# Altium footprint library react4.PcbLib: 30 footprints (part 1 of 2)
Each footprint in its own frame and in the unit in brackets; x right, y up, seen from the top. Pads: shape width x height; smd on the part's side, far side on the other; paste and mask are expansions set on the pad; w line width, h text height; cw(c..) or ccw(c..) is an arc to the next point about the centre after c.
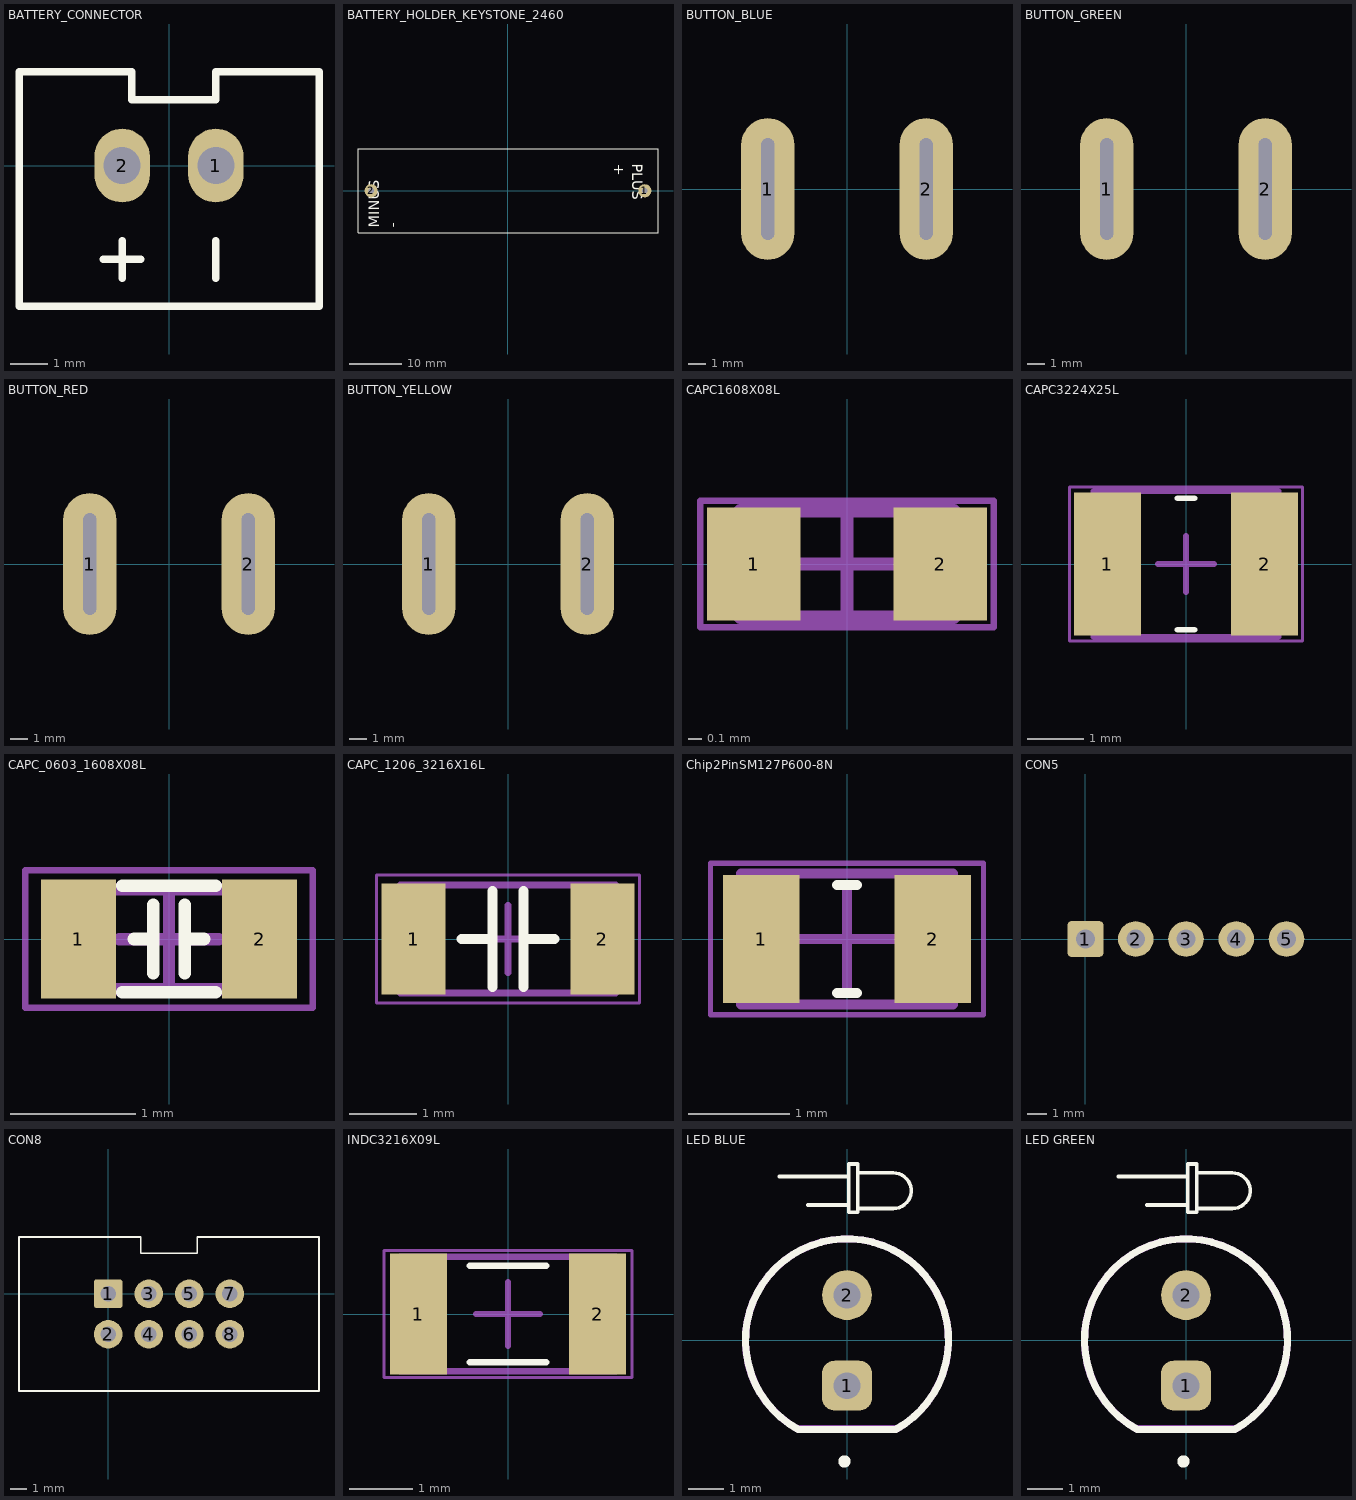
[diagram p0: the footprints below, top view; thin cyan lines are the x and y axes]

## BATTERY_CONNECTOR [mm]
pads (2):
  oval 1.5x2 hole 1: 1(1.27,0) 2(-1.27,0)
Top Overlay:
  lines w0.203: -1.778,-2.54 -0.762,-2.54 ; -1.27,-3.048 -1.27,-2.032 ; 1.27,-3.048 1.27,-2.032 ; -4.064,-3.81 -4.064,2.54 -1.016,2.54 -1.016,1.778 1.27,1.778 1.27,2.54 4.064,2.54 4.064,-3.81 -4.064,-3.81
3D body "JST B2B-XH-A 2 pin.step": height 7, standoff -3.4, extent -3.75,-3.55 3.75,2.35

## BATTERY_HOLDER_KEYSTONE_2460 [mm]
pads (2):
  round 2.5 hole 1: 1(26,0) 2(-26,0)
Top Overlay:
  lines w0.102: -28.499,-8 28.5,-8 28.5,8 -28.499,8 -28.499,-8
  text "PLUS / +" at 19.387,5.178 h3.5
  text "MINUS / -" at -20.168,-6.985 h3.5
3D body "KEYSTONE 2460.step": height 13.25, standoff 0, extent -28.5,-8.007 28.5,8

## BUTTON_BLUE [mm]
pads (2):
  rrect100% 3x8 hole 0.75 slot 5.75 at 90 deg: 1(-4.475,0) 2(4.475,0)
3D body "button_blue.step": height 19.15, standoff -5, extent -9.5,-9.497 9.5,9.497

## BUTTON_GREEN [mm]
pads (2):
  rrect100% 3x8 hole 0.75 slot 5.75 at 90 deg: 1(-4.475,0) 2(4.475,0)
3D body "big_button.step": height 19.15, standoff -5, extent -9.5,-9.497 9.5,9.497

## BUTTON_RED [mm]
pads (2):
  rrect100% 3x8 hole 0.75 slot 5.75 at 90 deg: 1(-4.475,0) 2(4.475,0)
3D body "button_red.step": height 19.15, standoff -5, extent -9.5,-9.497 9.5,9.497

## BUTTON_YELLOW [mm]
pads (2):
  rrect100% 3x8 hole 0.75 slot 5.75 at 90 deg: 1(-4.475,0) 2(4.475,0)
3D body "button_yellow.step": height 19.15, standoff -5, extent -9.5,-9.497 9.5,9.497

## CAPC1608X08L [mm] "Chip Capacitor, 2-Leads, Body 1.60x0.80mm, IPC High Density"
height 0.8
pads (2):
  rrect1% 0.7x0.85 smd mask+0.05: 1(-0.7,0) 2(0.7,0)
Top Courtyard:
  lines w0.05: -1.1,-0.475 -1.1,0.475 1.1,0.475 1.1,-0.475 -1.1,-0.475
  lines w0.1: -0.4,0 0.4,0 ; 0,-0.4 0,0.4
Top Assembly:
  lines w0.1: -0.8,-0.4 -0.8,0.4 0.8,0.4 0.8,-0.4 -0.8,-0.4
3D body "CAPC1608X08L.step": height 0.8, standoff 0, extent -0.8,-0.4 0.8,0.4

## CAPC3224X25L [mm] "Chip Capacitor, 2-Leads, Body 3.20x2.45mm, IPC High Density"
height 2.5
pads (2):
  rrect1% 1.2x2.55 smd: 1(-1.4,0) 2(1.4,0)
Top Overlay:
  lines w0.102: -0.15,-1.175 0.15,-1.175 ; -0.15,1.175 0.15,1.175
Top Assembly:
  lines w0.1: -1.65,-1.3 -1.65,1.3 1.65,1.3 1.65,-1.3 -1.65,-1.3
Mechanical 15:
  lines w0.05: -2.075,-1.375 2.075,-1.375 2.075,1.375 -2.075,1.375 -2.075,-1.375
  lines w0.1: -0.5,0 0.5,0 ; 0,-0.5 0,0.5
3D body "CAPC3224X25L.step": height 2.5, standoff 0, extent -1.65,-1.3 1.65,1.3

## CAPC_0603_1608X08L [mm] "Chip Capacitor 0603"
height 0.8
pads (2):
  rrect1% 0.6x0.95 smd: 1(-0.725,0) 2(0.725,0)
Top Overlay:
  lines w0.102: -0.375,-0.425 0.375,-0.425 ; -0.375,0.425 0.375,0.425 ; -0.279,0 -0.127,0 ; -0.127,-0.275 -0.127,0.275 ; 0.127,-0.275 0.127,0.275 ; 0.127,0 0.279,0
Top Courtyard:
  lines w0.05: -1.15,-0.55 1.15,-0.55 ; -1.15,-0.55 -1.15,0.55 ; -1.15,-0.55 1.15,-0.55 ; -1.15,-0.55 -1.15,0.55 ; -1.15,0.55 1.15,0.55 ; -1.15,0.55 1.15,0.55 ; 1.15,-0.55 1.15,0.55 ; 1.15,-0.55 1.15,0.55
  lines w0.1: -0.4,0 0.4,0 ; 0,-0.4 0,0.4
Top Assembly:
  lines w0.1: -0.8,-0.4 0.8,-0.4 0.8,0.4 -0.8,0.4 -0.8,-0.4
3D body "CAPC_0603_1608X08L.step": height 0.8, standoff 0, extent -0.8,-0.4 0.8,0.4

## CAPC_1206_3216X16L [mm] "Chip Capacitor 1206"
height 1.6
pads (2):
  rrect1% 0.95x1.65 smd: 1(-1.4,0) 2(1.4,0)
Top Overlay:
  lines w0.152: -0.686,0 -0.229,0 ; -0.229,-0.711 -0.229,0.711 ; 0.229,-0.711 0.229,0.711 ; 0.229,0 0.686,0
Top Courtyard:
  lines w0.05: -1.95,-0.95 1.95,-0.95 1.95,0.95 -1.95,0.95 -1.95,-0.95
  lines w0.1: -0.5,0 0.5,0 ; 0,-0.5 0,0.5
Top Assembly:
  lines w0.1: -1.6,-0.8 -1.6,0.8 1.6,0.8 1.6,-0.8 -1.6,-0.8
3D body "CAPC_1206_3216X16L.step": height 1.6, standoff 0, extent -1.6,-0.8 1.6,0.8

## Chip2PinSM127P600-8N [mm] "Inductor 0805"
height 0.5
pads (2):
  rrect1% 0.76x1.27 smd: 1(-0.85,0) 2(0.85,0)
Top Overlay:
  lines w0.102: -0.1,-0.535 0.1,-0.535 ; -0.1,0.535 0.1,0.535
Top Courtyard:
  lines w0.05: -1.35,-0.75 1.35,-0.75 1.35,0.75 -1.35,0.75 -1.35,-0.75
  lines w0.1: -0.5,0 0.5,0 ; 0,-0.5 0,0.5
Top Assembly:
  lines w0.1: -1.05,-0.65 1.05,-0.65 1.05,0.65 -1.05,0.65 -1.05,-0.65
3D body "Chip2PinSM127P600-8N.step": height 0.5, standoff 0, extent -1.05,-0.65 1.05,0.65

## CON5 [mm]
pads (5):
  rrect20% 1.8x1.8 hole 0.95: 1(0,0)
  rrect100% 1.8x1.8 hole 0.95: 2(2.54,0) 3(5.08,0) 4(7.62,0) 5(10.16,0)

## CON8 [mm] "0.1 inch 8 way"
pads (8):
  rrect20% 1.8x1.8 hole 0.95: 1(0,0)
  rrect100% 1.8x1.8 hole 0.95: 2(0,-2.54) 3(2.54,0) 4(2.54,-2.54) 5(5.08,0) 6(5.08,-2.54) 7(7.62,0) 8(7.62,-2.54)
Top Overlay:
  lines w0.102: -5.588,-6.096 -5.588,3.556 2.032,3.556 2.032,2.54 5.588,2.54 5.588,3.556 13.208,3.556 13.208,-6.096 -5.588,-6.096
3D body "idc_2x4_female.stp": height 9, standoff -3.6, extent -5.17,-5.67 12.79,3.23

## INDC3216X09L [mm] "Chip Inductor, 2-Leads, Body 3.20x1.60mm, IPC High Density"
height 0.9
pads (2):
  rrect1% 0.9x1.9 smd: 1(-1.41,0) 2(1.41,0)
Top Overlay:
  lines w0.102: -0.6,-0.76 0.6,-0.76 ; -0.6,0.76 0.6,0.76
Top Courtyard:
  lines w0.05: -1.95,-1 -1.95,1 1.95,1 1.95,-1 -1.95,-1
  lines w0.1: -0.5,0 0.5,0 ; 0,-0.5 0,0.5
Top Assembly:
  lines w0.1: -1.7,-0.9 -1.7,0.9 1.7,0.9 1.7,-0.9 -1.7,-0.9
3D body "INDC3216X09L.step": height 0.9, standoff 0, extent -1.7,-0.9 1.7,0.9

## LED BLUE [mm] "5MM through hole LED"
pads (2):
  rrect50% 1.4x1.4 hole 0.75: 1(0,-1.27)
  round 1.4 hole 0.75: 2(0,1.27)
Top Overlay:
  circle w0.2: c-0.071,-3.397 r0.072
  lines w0.102: -1.9,4.6 0.05,4.6 ; -1.1,3.8 0.05,3.8 ; 0.3,3.7 1.3,3.7 ccw(c1.3,4.2) 1.3,4.7 0.3,4.7 ; 0.05,3.6 0.3,3.6 0.3,4.95 0.05,4.95 0.05,3.6
  lines w0.2: -1.378,-2.495 cw(c0,0) 1.377,-2.495
  lines w0.203: -1.361,-2.5 1.358,-2.5
Top Assembly:
  lines w0.2: -1.406,-2.479 cw(c0,0) 1.396,-2.485
  lines w0.203: -1.406,-2.479 1.396,-2.479
3D body "led_green.step": height 8.5, standoff -4, extent -2.799,-2.55 2.799,2.8

## LED GREEN [mm] "5MM through hole LED"
pads (2):
  rrect50% 1.4x1.4 hole 0.75: 1(0,-1.27)
  round 1.4 hole 0.75: 2(0,1.27)
Top Overlay:
  circle w0.2: c-0.071,-3.397 r0.072
  lines w0.102: -1.9,4.6 0.05,4.6 ; -1.1,3.8 0.05,3.8 ; 0.3,3.7 1.3,3.7 ccw(c1.3,4.2) 1.3,4.7 0.3,4.7 ; 0.05,3.6 0.05,4.95 0.3,4.95 0.3,3.6 0.05,3.6
  lines w0.2: -1.378,-2.495 cw(c0,0) 1.377,-2.495
  lines w0.203: -1.361,-2.5 1.358,-2.5
Top Assembly:
  lines w0.2: -1.406,-2.479 cw(c0,0) 1.396,-2.485
  lines w0.203: -1.406,-2.479 1.396,-2.479
3D body "led_green.step": height 8.5, standoff -4, extent -2.799,-2.55 2.799,2.8